# Altium schematic symbol library kmilo17pet-LT_OpAmp_LT1000.SchLib: 2280 symbols (part 74 of 79)
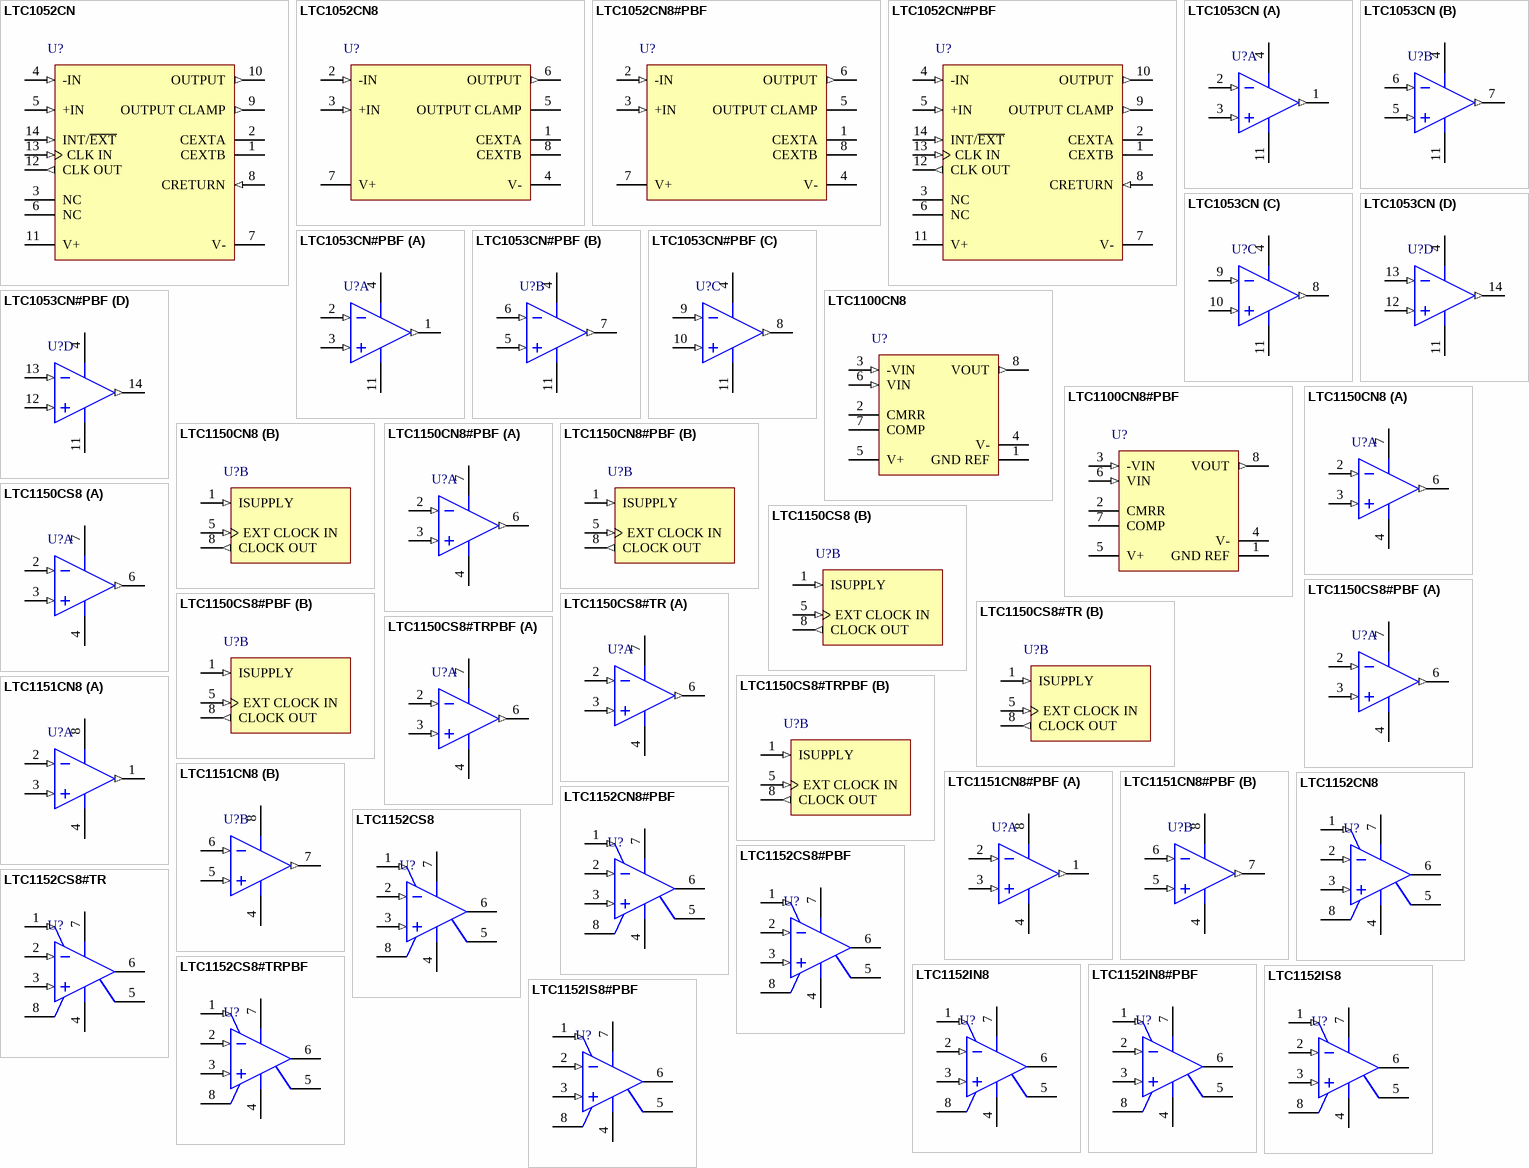
[diagram p178: symbols LTC1052CN to LTC1152IS8#PBF]

## LTC1150CS8#TRPBF
designator U?
Single Channel, Zero-Drift Operational Amplifier with Internal Capacitors, 2.5 MHz Typical GBW, 3 V/us Typical SR, 4.75 to 32 V, 8-Pin SOIC (S8-8), Commercial, Pb-Free, Reel; Linear Technology Part Number: LTC1150; Manufacturer: Linear Technology; PartNumber: LTC1150CS8#TRPBF; Channels (#): 1; GBW (MHz) Typical: 2.5; Is (mA) Typical: 0.8; SR (V/us) Typical: 3; Vos (mV) Typical: 0.0005; Vs Max (V): 32; Vs Min (V): 4.75; DatasheetVersion: Rev. B; PackageVersion: Rev G; PackageReference: LT-S8-8; PackageDescription: 8-Pin Plastic Small Outline, Body 4.9 x 3.9 mm, Pitch 1.27 mm; Supplier 1: Digi-Key; Supplier Part Number 1: LTC1150CS8#TRPBF-ND; Supplier 2: Newark; Supplier Part Number 2: 55M9400; Packing: Reel; RoHS: Pb-Free; Type: ZD; Mounting Technology: Surface Mount; ComponentLink1Description: Manufacturer URL; ComponentLink1URL: http://www.linear.com/; ComponentLink2Description: Datasheet; ComponentLink2URL: http://cds.linear.com/docs/en/datasheet/1150fb.pdf; ComponentLink3Description: Package Specification; ComponentLink3URL: http://cds.linear.com/docs/en/packaging/05081610_G_SO8.pdf
footprint LT-S8-8_N (SOIC, 8-Leads, Body 4.9x3.9mm, Pitch 1.27mm, IPC Medium Density)
footprint LT-S8-8_L (SOIC, 8-Leads, Body 4.9x3.9mm, Pitch 1.27mm, IPC High Density)
footprint LT-S8-8_M (SOIC, 8-Leads, Body 4.9x3.9mm, Pitch 1.27mm, IPC Low Density)
part A pins: 2 -IN (in) "Inverting Input.", 3 +IN (in) "Noninverting Input.", 4 V- (power) "Negative Supply", 6 OUT (out) "Output.", 7 V+ (power) "Positive Supply."
part B pins: 1 ISUPPLY (in) "Supply Current Programming. The supply current can be programmed through Pin 1. When Pin 1 is left open or tied to V+, the supply current defaults to 800uA. Tying a resistor between Pin 1 and Pin 4, the negative supply pin, (See Datasheet)", 5 EXT CLOCK IN (in) "Optional External Clock Input. The LTC1150 has an internal oscillator to control the circuit operation of the amplifier if Pin 5 is left open or biased at any DC voltage in the supply voltage range. When an external clock is (See Datasheet)", 8 CLOCK OUT (out) "Clock Output. The signal coming out of this pin is at the internal oscillator frequency of about 2.2kHz (four times the chopping frequency) and has voltage levels at VH = VS and VL = VS -4.6. If the circuit is driven by an (See Datasheet)"

## LTC1151CN8
designator U?
Dual Channel, Zero-Drift Operational Amplifier, 2 MHz Typical GBW, 2.5 V/us Typical SR, 4.75 to 36 V, 8-Pin DIP (N8-8), Commercial; Linear Technology Part Number: LTC1151; Manufacturer: Linear Technology; PartNumber: LTC1151CN8; Channels (#): 2; Is (mA) Typical: 0.9; SR (V/us) Typical: 2.5; Vos (mV) Typical: 0.0005; Vs Max (V): 36; Vs Min (V): 4.75; DatasheetVersion: Rev. A; PackageVersion: Rev I; PackageReference: LT-N8-8; PackageDescription: 8-Lead PDIP, Body 10.16 x 6.48 mm, Pitch 2.54 mm; Supplier 1: Digi-Key; Supplier Part Number 1: LTC1151CN8-ND; Supplier 2: Newark; Supplier Part Number 2: 55M9401; GBW (MHz) Typical: 2; Type: ZD; Mounting Technology: Surface Mount; ComponentLink1Description: Manufacturer URL; ComponentLink1URL: http://www.linear.com/; ComponentLink2Description: Datasheet; ComponentLink2URL: http://cds.linear.com/docs/en/datasheet/1151fa.pdf; ComponentLink3Description: Package Specification; ComponentLink3URL: http://cds.linear.com/docs/en/packaging/05081510_I_N8.pdf
footprint LT-N8-8 (DIP, 8-Leads, Body 10.16x6.48mm, Pitch 2.54mm)
pins on every part: 4 V- (power), 8 V+ (power)
part A pins: 1 OUT A (out), 2 -IN A (in), 3 +IN A (in)
part B pins: 5 +IN B (in), 6 -IN B (in), 7 OUT B (out)

## LTC1151CN8#PBF
designator U?
Dual Channel, Zero-Drift Operational Amplifier, 2 MHz Typical GBW, 2.5 V/us Typical SR, 4.75 to 36 V, 8-Pin DIP (N8-8), Commercial, Pb-Free; Linear Technology Part Number: LTC1151; Manufacturer: Linear Technology; PartNumber: LTC1151CN8#PBF; Channels (#): 2; Is (mA) Typical: 0.9; SR (V/us) Typical: 2.5; Vos (mV) Typical: 0.0005; Vs Max (V): 36; Vs Min (V): 4.75; DatasheetVersion: Rev. A; PackageVersion: Rev I; PackageReference: LT-N8-8; PackageDescription: 8-Lead PDIP, Body 10.16 x 6.48 mm, Pitch 2.54 mm; Supplier 1: Digi-Key; Supplier Part Number 1: LTC1151CN8#PBF-ND; Supplier 2: Farnell; Supplier Part Number 2: 1663602; Supplier 3: Newark; Supplier Part Number 3: 55M9402; GBW (MHz) Typical: 2; RoHS: Pb-Free; Type: ZD; Mounting Technology: Through Hole; ComponentLink1Description: Manufacturer URL; ComponentLink1URL: http://www.linear.com/; ComponentLink2Description: Datasheet; ComponentLink2URL: http://cds.linear.com/docs/en/datasheet/1151fa.pdf; ComponentLink3Description: Package Specification; ComponentLink3URL: http://cds.linear.com/docs/en/packaging/05081510_I_N8.pdf
footprint LT-N8-8 (DIP, 8-Leads, Body 10.16x6.48mm, Pitch 2.54mm)
pins on every part: 4 V- (power), 8 V+ (power)
part A pins: 1 OUT A (out), 2 -IN A (in), 3 +IN A (in)
part B pins: 5 +IN B (in), 6 -IN B (in), 7 OUT B (out)

## LTC1152CN8
designator U?
Single Channel, C-Load Stable, Zero-Drift Operational Amplifier, RRIO, 0.7 MHz Typical GBW, 0.5 V/us Typical SR, 3 to 14 V, 8-Pin DIP (N8-8), Commercial; Linear Technology Part Number: LTC1152; Manufacturer: Linear Technology; PartNumber: LTC1152CN8; Channels (#): 1; GBW (MHz) Typical: 0.7; Is (mA) Typical: 2.2; SR (V/us) Typical: 0.5; Vos (mV) Typical: 0.001; Vs Max (V): 14; Vs Min (V): 3; PackageVersion: Rev I; PackageReference: LT-N8-8; PackageDescription: 8-Lead PDIP, Body 10.16 x 6.48 mm, Pitch 2.54 mm; Supplier 1: Digi-Key; Supplier Part Number 1: LTC1152CN8-ND; Type: ZD; Mounting Technology: Surface Mount; ComponentLink1Description: Manufacturer URL; ComponentLink1URL: http://www.linear.com/; ComponentLink2Description: Datasheet; ComponentLink2URL: http://cds.linear.com/docs/en/datasheet/lt1152.pdf; ComponentLink3Description: Package Specification; ComponentLink3URL: http://cds.linear.com/docs/en/packaging/05081510_I_N8.pdf
footprint LT-N8-8 (DIP, 8-Leads, Body 10.16x6.48mm, Pitch 2.54mm)
pins: 1 SHDN (in), 2 -IN (in), 3 +IN (in), 4 -VS (power), 5 COMP, 6 OUTPUT (hiz), 7 +VS (power), 8 CP

## LTC1152CN8#PBF
designator U?
Single Channel, C-Load Stable, Zero-Drift Operational Amplifier, RRIO, 0.7 MHz Typical GBW, 0.5 V/us Typical SR, 3 to 14 V, 8-Pin DIP (N8-8), Commercial, Pb-Free; Linear Technology Part Number: LTC1152; Manufacturer: Linear Technology; PartNumber: LTC1152CN8#PBF; Channels (#): 1; GBW (MHz) Typical: 0.7; Is (mA) Typical: 2.2; SR (V/us) Typical: 0.5; Vos (mV) Typical: 0.001; Vs Max (V): 14; Vs Min (V): 3; PackageVersion: Rev I; PackageReference: LT-N8-8; PackageDescription: 8-Lead PDIP, Body 10.16 x 6.48 mm, Pitch 2.54 mm; Supplier 1: Digi-Key; Supplier Part Number 1: LTC1152CN8#PBF-ND; Supplier 2: Farnell; Supplier Part Number 2: 9560882; RoHS: Pb-Free; Type: ZD; Mounting Technology: Through Hole; ComponentLink1Description: Manufacturer URL; ComponentLink1URL: http://www.linear.com/; ComponentLink2Description: Datasheet; ComponentLink2URL: http://cds.linear.com/docs/en/datasheet/lt1152.pdf; ComponentLink3Description: Package Specification; ComponentLink3URL: http://cds.linear.com/docs/en/packaging/05081510_I_N8.pdf
footprint LT-N8-8 (DIP, 8-Leads, Body 10.16x6.48mm, Pitch 2.54mm)
pins: 1 SHDN (in), 2 -IN (in), 3 +IN (in), 4 -VS (power), 5 COMP, 6 OUTPUT (hiz), 7 +VS (power), 8 CP

## LTC1152CS8
designator U?
Single Channel, C-Load Stable, Zero-Drift Operational Amplifier, RRIO, 0.7 MHz Typical GBW, 0.5 V/us Typical SR, 3 to 14 V, 8-Pin SOIC (S8-8), Commercial; Linear Technology Part Number: LTC1152; Manufacturer: Linear Technology; PartNumber: LTC1152CS8; Channels (#): 1; GBW (MHz) Typical: 0.7; Is (mA) Typical: 2.2; SR (V/us) Typical: 0.5; Vos (mV) Typical: 0.001; Vs Max (V): 14; Vs Min (V): 3; PackageVersion: Rev G; PackageReference: LT-S8-8; PackageDescription: 8-Pin Plastic Small Outline, Body 4.9 x 3.9 mm, Pitch 1.27 mm; Supplier 1: Digi-Key; Supplier Part Number 1: LTC1152CS8-ND; Supplier 2: Newark; Supplier Part Number 2: 55M9409; Type: ZD; Mounting Technology: Surface Mount; ComponentLink1Description: Manufacturer URL; ComponentLink1URL: http://www.linear.com/; ComponentLink2Description: Datasheet; ComponentLink2URL: http://cds.linear.com/docs/en/datasheet/lt1152.pdf; ComponentLink3Description: Package Specification; ComponentLink3URL: http://cds.linear.com/docs/en/packaging/05081610_G_SO8.pdf
footprint LT-S8-8_N (SOIC, 8-Leads, Body 4.9x3.9mm, Pitch 1.27mm, IPC Medium Density)
footprint LT-S8-8_L (SOIC, 8-Leads, Body 4.9x3.9mm, Pitch 1.27mm, IPC High Density)
footprint LT-S8-8_M (SOIC, 8-Leads, Body 4.9x3.9mm, Pitch 1.27mm, IPC Low Density)
pins: 1 SHDN (in), 2 -IN (in), 3 +IN (in), 4 -VS (power), 5 COMP, 6 OUTPUT (hiz), 7 +VS (power), 8 CP

## LTC1152CS8#PBF
designator U?
Single Channel, C-Load Stable, Zero-Drift Operational Amplifier, RRIO, 0.7 MHz Typical GBW, 0.5 V/us Typical SR, 3 to 14 V, 8-Pin SOIC (S8-8), Commercial, Pb-Free; Linear Technology Part Number: LTC1152; Manufacturer: Linear Technology; PartNumber: LTC1152CS8#PBF; Channels (#): 1; GBW (MHz) Typical: 0.7; Is (mA) Typical: 2.2; SR (V/us) Typical: 0.5; Vos (mV) Typical: 0.001; Vs Max (V): 14; Vs Min (V): 3; PackageVersion: Rev G; PackageReference: LT-S8-8; PackageDescription: 8-Pin Plastic Small Outline, Body 4.9 x 3.9 mm, Pitch 1.27 mm; Supplier 1: Digi-Key; Supplier Part Number 1: LTC1152CS8#PBF-ND; Supplier 2: Farnell; Supplier Part Number 2: 9560890; Supplier 3: Newark; Supplier Part Number 3: 55M9410; RoHS: Pb-Free; Type: ZD; Mounting Technology: Surface Mount; ComponentLink1Description: Manufacturer URL; ComponentLink1URL: http://www.linear.com/; ComponentLink2Description: Datasheet; ComponentLink2URL: http://cds.linear.com/docs/en/datasheet/lt1152.pdf; ComponentLink3Description: Package Specification; ComponentLink3URL: http://cds.linear.com/docs/en/packaging/05081610_G_SO8.pdf
footprint LT-S8-8_N (SOIC, 8-Leads, Body 4.9x3.9mm, Pitch 1.27mm, IPC Medium Density)
footprint LT-S8-8_L (SOIC, 8-Leads, Body 4.9x3.9mm, Pitch 1.27mm, IPC High Density)
footprint LT-S8-8_M (SOIC, 8-Leads, Body 4.9x3.9mm, Pitch 1.27mm, IPC Low Density)
pins: 1 SHDN (in), 2 -IN (in), 3 +IN (in), 4 -VS (power), 5 COMP, 6 OUTPUT (hiz), 7 +VS (power), 8 CP

## LTC1152CS8#TR
designator U?
Single Channel, C-Load Stable, Zero-Drift Operational Amplifier, RRIO, 0.7 MHz Typical GBW, 0.5 V/us Typical SR, 3 to 14 V, 8-Pin SOIC (S8-8), Commercial, Reel; Linear Technology Part Number: LTC1152; Manufacturer: Linear Technology; PartNumber: LTC1152CS8#TR; Channels (#): 1; GBW (MHz) Typical: 0.7; Is (mA) Typical: 2.2; SR (V/us) Typical: 0.5; Vos (mV) Typical: 0.001; Vs Max (V): 14; Vs Min (V): 3; PackageVersion: Rev G; PackageReference: LT-S8-8; PackageDescription: 8-Pin Plastic Small Outline, Body 4.9 x 3.9 mm, Pitch 1.27 mm; Supplier 1: Digi-Key; Supplier Part Number 1: LTC1152CS8#TR-ND; Packing: Reel; Type: ZD; Mounting Technology: Surface Mount; ComponentLink1Description: Manufacturer URL; ComponentLink1URL: http://www.linear.com/; ComponentLink2Description: Datasheet; ComponentLink2URL: http://cds.linear.com/docs/en/datasheet/lt1152.pdf; ComponentLink3Description: Package Specification; ComponentLink3URL: http://cds.linear.com/docs/en/packaging/05081610_G_SO8.pdf
footprint LT-S8-8_N (SOIC, 8-Leads, Body 4.9x3.9mm, Pitch 1.27mm, IPC Medium Density)
footprint LT-S8-8_L (SOIC, 8-Leads, Body 4.9x3.9mm, Pitch 1.27mm, IPC High Density)
footprint LT-S8-8_M (SOIC, 8-Leads, Body 4.9x3.9mm, Pitch 1.27mm, IPC Low Density)
pins: 1 SHDN (in), 2 -IN (in), 3 +IN (in), 4 -VS (power), 5 COMP, 6 OUTPUT (hiz), 7 +VS (power), 8 CP

## LTC1152CS8#TRPBF
designator U?
Single Channel, C-Load Stable, Zero-Drift Operational Amplifier, RRIO, 0.7 MHz Typical GBW, 0.5 V/us Typical SR, 3 to 14 V, 8-Pin SOIC (S8-8), Commercial, Pb-Free, Reel; Linear Technology Part Number: LTC1152; Manufacturer: Linear Technology; PartNumber: LTC1152CS8#TRPBF; Channels (#): 1; GBW (MHz) Typical: 0.7; Is (mA) Typical: 2.2; SR (V/us) Typical: 0.5; Vos (mV) Typical: 0.001; Vs Max (V): 14; Vs Min (V): 3; PackageVersion: Rev G; PackageReference: LT-S8-8; PackageDescription: 8-Pin Plastic Small Outline, Body 4.9 x 3.9 mm, Pitch 1.27 mm; Supplier 1: Digi-Key; Supplier Part Number 1: LTC1152CS8#TRPBF-ND; Packing: Reel; RoHS: Pb-Free; Type: ZD; Mounting Technology: Surface Mount; ComponentLink1Description: Manufacturer URL; ComponentLink1URL: http://www.linear.com/; ComponentLink2Description: Datasheet; ComponentLink2URL: http://cds.linear.com/docs/en/datasheet/lt1152.pdf; ComponentLink3Description: Package Specification; ComponentLink3URL: http://cds.linear.com/docs/en/packaging/05081610_G_SO8.pdf
footprint LT-S8-8_N (SOIC, 8-Leads, Body 4.9x3.9mm, Pitch 1.27mm, IPC Medium Density)
footprint LT-S8-8_L (SOIC, 8-Leads, Body 4.9x3.9mm, Pitch 1.27mm, IPC High Density)
footprint LT-S8-8_M (SOIC, 8-Leads, Body 4.9x3.9mm, Pitch 1.27mm, IPC Low Density)
pins: 1 SHDN (in), 2 -IN (in), 3 +IN (in), 4 -VS (power), 5 COMP, 6 OUTPUT (hiz), 7 +VS (power), 8 CP

## LTC1152IN8
designator U?
Single Channel, C-Load Stable, Zero-Drift Operational Amplifier, RRIO, 0.7 MHz Typical GBW, 0.5 V/us Typical SR, 3 to 14 V, 8-Pin DIP (N8-8), Industrial; Linear Technology Part Number: LTC1152; Manufacturer: Linear Technology; PartNumber: LTC1152IN8; Channels (#): 1; GBW (MHz) Typical: 0.7; Is (mA) Typical: 2.2; SR (V/us) Typical: 0.5; Vos (mV) Typical: 0.001; Vs Max (V): 14; Vs Min (V): 3; PackageVersion: Rev I; PackageReference: LT-N8-8; PackageDescription: 8-Lead PDIP, Body 10.16 x 6.48 mm, Pitch 2.54 mm; Supplier 1: Digi-Key; Supplier Part Number 1: LTC1152IN8-ND; Type: ZD; Mounting Technology: Surface Mount; ComponentLink1Description: Manufacturer URL; ComponentLink1URL: http://www.linear.com/; ComponentLink2Description: Datasheet; ComponentLink2URL: http://cds.linear.com/docs/en/datasheet/lt1152.pdf; ComponentLink3Description: Package Specification; ComponentLink3URL: http://cds.linear.com/docs/en/packaging/05081510_I_N8.pdf
footprint LT-N8-8 (DIP, 8-Leads, Body 10.16x6.48mm, Pitch 2.54mm)
pins: 1 SHDN (in), 2 -IN (in), 3 +IN (in), 4 -VS (power), 5 COMP, 6 OUTPUT (hiz), 7 +VS (power), 8 CP

## LTC1152IN8#PBF
designator U?
Single Channel, C-Load Stable, Zero-Drift Operational Amplifier, RRIO, 0.7 MHz Typical GBW, 0.5 V/us Typical SR, 3 to 14 V, 8-Pin DIP (N8-8), Industrial, Pb-Free; Linear Technology Part Number: LTC1152; Manufacturer: Linear Technology; PartNumber: LTC1152IN8#PBF; Channels (#): 1; GBW (MHz) Typical: 0.7; Is (mA) Typical: 2.2; SR (V/us) Typical: 0.5; Vos (mV) Typical: 0.001; Vs Max (V): 14; Vs Min (V): 3; PackageVersion: Rev I; PackageReference: LT-N8-8; PackageDescription: 8-Lead PDIP, Body 10.16 x 6.48 mm, Pitch 2.54 mm; Supplier 1: Digi-Key; Supplier Part Number 1: LTC1152IN8#PBF-ND; Supplier 2: Newark; Supplier Part Number 2: 55M9414; RoHS: Pb-Free; Type: ZD; Mounting Technology: Through Hole; ComponentLink1Description: Manufacturer URL; ComponentLink1URL: http://www.linear.com/; ComponentLink2Description: Datasheet; ComponentLink2URL: http://cds.linear.com/docs/en/datasheet/lt1152.pdf; ComponentLink3Description: Package Specification; ComponentLink3URL: http://cds.linear.com/docs/en/packaging/05081510_I_N8.pdf
footprint LT-N8-8 (DIP, 8-Leads, Body 10.16x6.48mm, Pitch 2.54mm)
pins: 1 SHDN (in), 2 -IN (in), 3 +IN (in), 4 -VS (power), 5 COMP, 6 OUTPUT (hiz), 7 +VS (power), 8 CP

## LTC1152IS8
designator U?
Single Channel, C-Load Stable, Zero-Drift Operational Amplifier, RRIO, 0.7 MHz Typical GBW, 0.5 V/us Typical SR, 3 to 14 V, 8-Pin SOIC (S8-8), Industrial; Linear Technology Part Number: LTC1152; Manufacturer: Linear Technology; PartNumber: LTC1152IS8; Channels (#): 1; GBW (MHz) Typical: 0.7; Is (mA) Typical: 2.2; SR (V/us) Typical: 0.5; Vos (mV) Typical: 0.001; Vs Max (V): 14; Vs Min (V): 3; PackageVersion: Rev G; PackageReference: LT-S8-8; PackageDescription: 8-Pin Plastic Small Outline, Body 4.9 x 3.9 mm, Pitch 1.27 mm; Supplier 1: Digi-Key; Supplier Part Number 1: LTC1152IS8-ND; Type: ZD; Mounting Technology: Surface Mount; ComponentLink1Description: Manufacturer URL; ComponentLink1URL: http://www.linear.com/; ComponentLink2Description: Datasheet; ComponentLink2URL: http://cds.linear.com/docs/en/datasheet/lt1152.pdf; ComponentLink3Description: Package Specification; ComponentLink3URL: http://cds.linear.com/docs/en/packaging/05081610_G_SO8.pdf
footprint LT-S8-8_N (SOIC, 8-Leads, Body 4.9x3.9mm, Pitch 1.27mm, IPC Medium Density)
footprint LT-S8-8_L (SOIC, 8-Leads, Body 4.9x3.9mm, Pitch 1.27mm, IPC High Density)
footprint LT-S8-8_M (SOIC, 8-Leads, Body 4.9x3.9mm, Pitch 1.27mm, IPC Low Density)
pins: 1 SHDN (in), 2 -IN (in), 3 +IN (in), 4 -VS (power), 5 COMP, 6 OUTPUT (hiz), 7 +VS (power), 8 CP

## LTC1152IS8#PBF
designator U?
Single Channel, C-Load Stable, Zero-Drift Operational Amplifier, RRIO, 0.7 MHz Typical GBW, 0.5 V/us Typical SR, 3 to 14 V, 8-Pin SOIC (S8-8), Industrial, Pb-Free; Linear Technology Part Number: LTC1152; Manufacturer: Linear Technology; PartNumber: LTC1152IS8#PBF; Channels (#): 1; GBW (MHz) Typical: 0.7; Is (mA) Typical: 2.2; SR (V/us) Typical: 0.5; Vos (mV) Typical: 0.001; Vs Max (V): 14; Vs Min (V): 3; PackageVersion: Rev G; PackageReference: LT-S8-8; PackageDescription: 8-Pin Plastic Small Outline, Body 4.9 x 3.9 mm, Pitch 1.27 mm; Supplier 1: Digi-Key; Supplier Part Number 1: LTC1152IS8#PBF-ND; Supplier 2: Farnell; Supplier Part Number 2: 1663603; Supplier 3: Newark; Supplier Part Number 3: 55M9416; RoHS: Pb-Free; Type: ZD; Mounting Technology: Surface Mount; ComponentLink1Description: Manufacturer URL; ComponentLink1URL: http://www.linear.com/; ComponentLink2Description: Datasheet; ComponentLink2URL: http://cds.linear.com/docs/en/datasheet/lt1152.pdf; ComponentLink3Description: Package Specification; ComponentLink3URL: http://cds.linear.com/docs/en/packaging/05081610_G_SO8.pdf
footprint LT-S8-8_N (SOIC, 8-Leads, Body 4.9x3.9mm, Pitch 1.27mm, IPC Medium Density)
footprint LT-S8-8_L (SOIC, 8-Leads, Body 4.9x3.9mm, Pitch 1.27mm, IPC High Density)
footprint LT-S8-8_M (SOIC, 8-Leads, Body 4.9x3.9mm, Pitch 1.27mm, IPC Low Density)
pins: 1 SHDN (in), 2 -IN (in), 3 +IN (in), 4 -VS (power), 5 COMP, 6 OUTPUT (hiz), 7 +VS (power), 8 CP

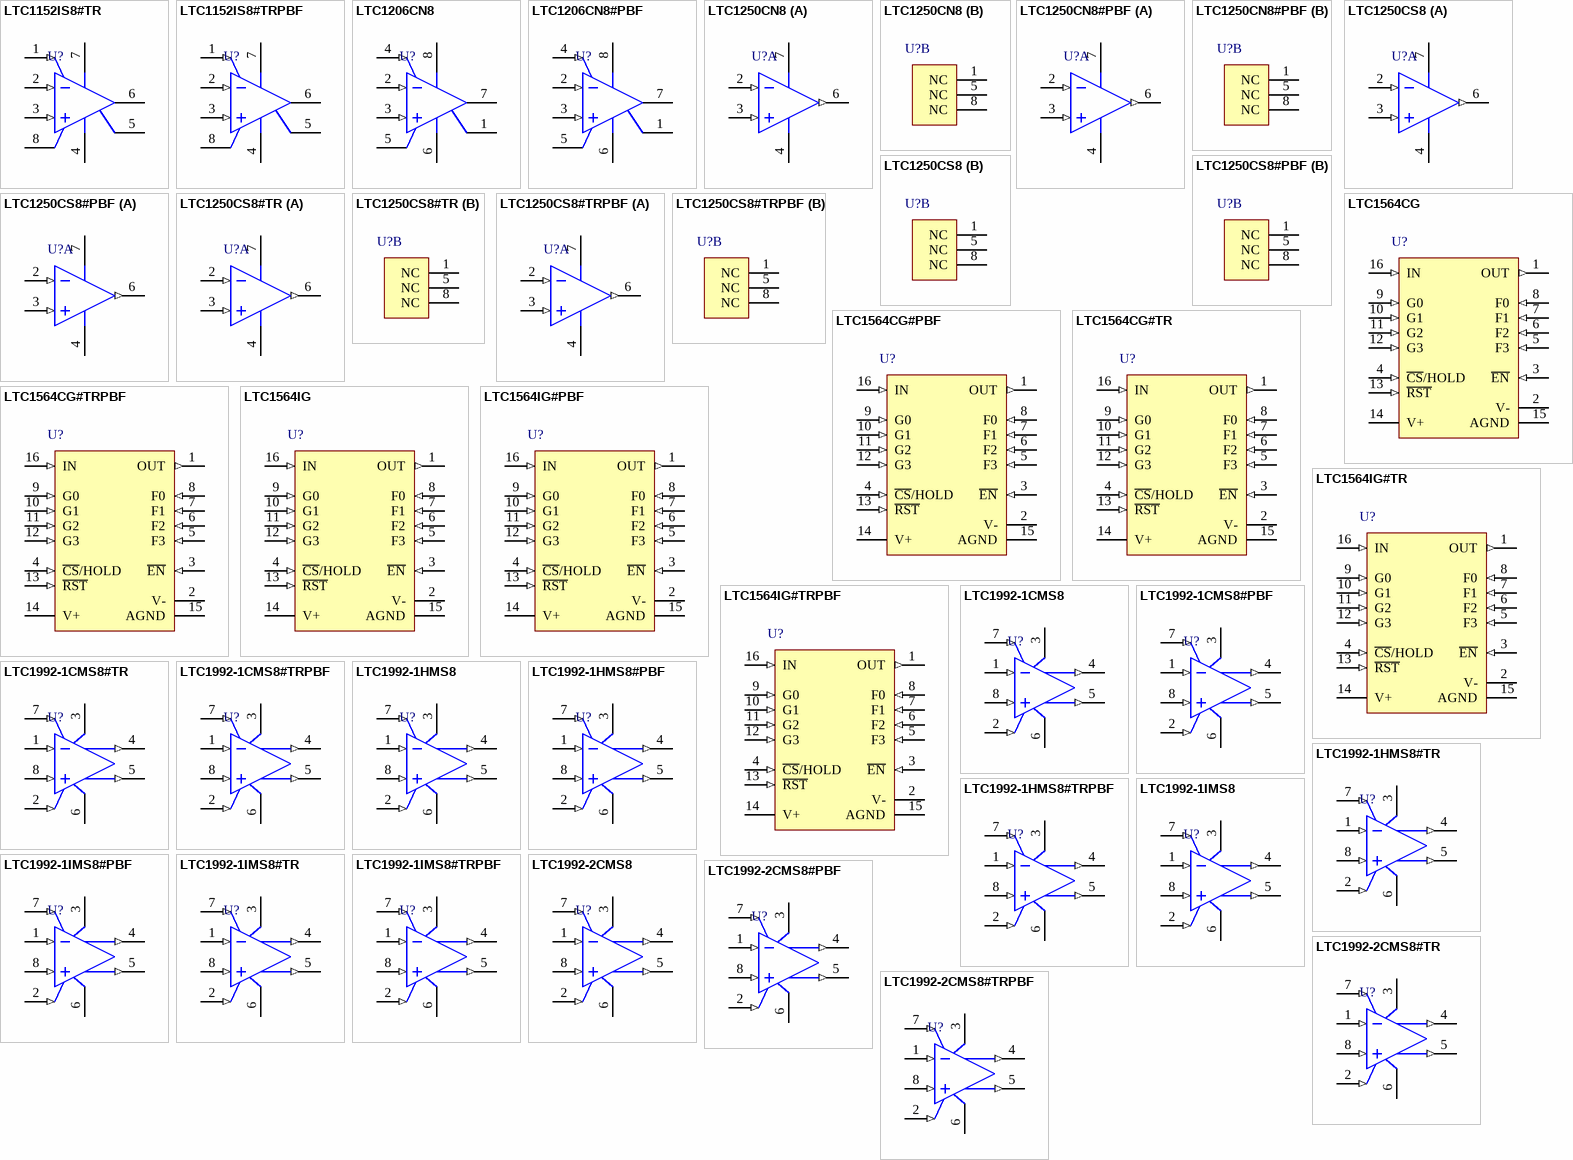
[diagram p103: symbols LTC1152IS8#TR to LTC1992-2CMS8#TRPBF]

## LTC1152IS8#TR
designator U?
Single Channel, C-Load Stable, Zero-Drift Operational Amplifier, RRIO, 0.7 MHz Typical GBW, 0.5 V/us Typical SR, 3 to 14 V, 8-Pin SOIC (S8-8), Industrial, Reel; Linear Technology Part Number: LTC1152; Manufacturer: Linear Technology; PartNumber: LTC1152IS8#TR; Channels (#): 1; GBW (MHz) Typical: 0.7; Is (mA) Typical: 2.2; SR (V/us) Typical: 0.5; Vos (mV) Typical: 0.001; Vs Max (V): 14; Vs Min (V): 3; PackageVersion: Rev G; PackageReference: LT-S8-8; PackageDescription: 8-Pin Plastic Small Outline, Body 4.9 x 3.9 mm, Pitch 1.27 mm; Supplier 1: Digi-Key; Supplier Part Number 1: LTC1152IS8#TR-ND; Packing: Reel; Type: ZD; Mounting Technology: Surface Mount; ComponentLink1Description: Manufacturer URL; ComponentLink1URL: http://www.linear.com/; ComponentLink2Description: Datasheet; ComponentLink2URL: http://cds.linear.com/docs/en/datasheet/lt1152.pdf; ComponentLink3Description: Package Specification; ComponentLink3URL: http://cds.linear.com/docs/en/packaging/05081610_G_SO8.pdf
footprint LT-S8-8_N (SOIC, 8-Leads, Body 4.9x3.9mm, Pitch 1.27mm, IPC Medium Density)
footprint LT-S8-8_L (SOIC, 8-Leads, Body 4.9x3.9mm, Pitch 1.27mm, IPC High Density)
footprint LT-S8-8_M (SOIC, 8-Leads, Body 4.9x3.9mm, Pitch 1.27mm, IPC Low Density)
pins: 1 SHDN (in), 2 -IN (in), 3 +IN (in), 4 -VS (power), 5 COMP, 6 OUTPUT (hiz), 7 +VS (power), 8 CP

## LTC1152IS8#TRPBF
designator U?
Single Channel, C-Load Stable, Zero-Drift Operational Amplifier, RRIO, 0.7 MHz Typical GBW, 0.5 V/us Typical SR, 3 to 14 V, 8-Pin SOIC (S8-8), Industrial, Pb-Free, Reel; Linear Technology Part Number: LTC1152; Manufacturer: Linear Technology; PartNumber: LTC1152IS8#TRPBF; Channels (#): 1; GBW (MHz) Typical: 0.7; Is (mA) Typical: 2.2; SR (V/us) Typical: 0.5; Vos (mV) Typical: 0.001; Vs Max (V): 14; Vs Min (V): 3; PackageVersion: Rev G; PackageReference: LT-S8-8; PackageDescription: 8-Pin Plastic Small Outline, Body 4.9 x 3.9 mm, Pitch 1.27 mm; Supplier 1: Digi-Key; Supplier Part Number 1: LTC1152IS8#TRPBF-ND; Packing: Reel; RoHS: Pb-Free; Type: ZD; Mounting Technology: Surface Mount; ComponentLink1Description: Manufacturer URL; ComponentLink1URL: http://www.linear.com/; ComponentLink2Description: Datasheet; ComponentLink2URL: http://cds.linear.com/docs/en/datasheet/lt1152.pdf; ComponentLink3Description: Package Specification; ComponentLink3URL: http://cds.linear.com/docs/en/packaging/05081610_G_SO8.pdf
footprint LT-S8-8_N (SOIC, 8-Leads, Body 4.9x3.9mm, Pitch 1.27mm, IPC Medium Density)
footprint LT-S8-8_L (SOIC, 8-Leads, Body 4.9x3.9mm, Pitch 1.27mm, IPC High Density)
footprint LT-S8-8_M (SOIC, 8-Leads, Body 4.9x3.9mm, Pitch 1.27mm, IPC Low Density)
pins: 1 SHDN (in), 2 -IN (in), 3 +IN (in), 4 -VS (power), 5 COMP, 6 OUTPUT (hiz), 7 +VS (power), 8 CP

## LTC1206CN8
designator U?
Single Channel, Adjustable Supply Current Operational Amplifier, 66 MHz Typical GBW, 900 V/us Typical SR, 10 to 36 V, 8-Pin DIP (N8-8), Commercial; Linear Technology Part Number: LT1206; Manufacturer: Linear Technology; PartNumber: LTC1206CN8; Channels (#): 1; GBW (MHz) Typical: 66; Is (mA) Typical: 20; SR (V/us) Typical: 900; Vos (mV) Typical: 3; Vs Max (V): 36; Vs Min (V): 10; DatasheetVersion: Rev. B; PackageVersion: Rev I; PackageReference: LT-N8-8; PackageDescription: 8-Lead PDIP, Body 10.16 x 6.48 mm, Pitch 2.54 mm; Type: CFA; Mounting Technology: Surface Mount; ComponentLink1Description: Manufacturer URL; ComponentLink1URL: http://www.linear.com/; ComponentLink2Description: Datasheet; ComponentLink2URL: http://cds.linear.com/docs/en/datasheet/1206fb.pdf; ComponentLink3Description: Package Specification; ComponentLink3URL: http://cds.linear.com/docs/en/packaging/05081510_I_N8.pdf
footprint LT-N8-8 (DIP, 8-Leads, Body 10.16x6.48mm, Pitch 2.54mm)
pins: 1 NC, 2 -IN (in), 3 +IN (in), 4 S/D (in), 5 COMP, 6 V- (power), 7 OUT (hiz), 8 V+ (power)

## LTC1206CN8#PBF
designator U?
Single Channel, Adjustable Supply Current Operational Amplifier, 66 MHz Typical GBW, 900 V/us Typical SR, 10 to 36 V, 8-Pin DIP (N8-8), Commercial, Pb-Free; Linear Technology Part Number: LT1206; Manufacturer: Linear Technology; PartNumber: LTC1206CN8#PBF; Channels (#): 1; GBW (MHz) Typical: 66; Is (mA) Typical: 20; SR (V/us) Typical: 900; Vos (mV) Typical: 3; Vs Max (V): 36; Vs Min (V): 10; DatasheetVersion: Rev. B; PackageVersion: Rev I; PackageReference: LT-N8-8; PackageDescription: 8-Lead PDIP, Body 10.16 x 6.48 mm, Pitch 2.54 mm; RoHS: Pb-Free; Type: CFA; Mounting Technology: Through Hole; ComponentLink1Description: Manufacturer URL; ComponentLink1URL: http://www.linear.com/; ComponentLink2Description: Datasheet; ComponentLink2URL: http://cds.linear.com/docs/en/datasheet/1206fb.pdf; ComponentLink3Description: Package Specification; ComponentLink3URL: http://cds.linear.com/docs/en/packaging/05081510_I_N8.pdf
footprint LT-N8-8 (DIP, 8-Leads, Body 10.16x6.48mm, Pitch 2.54mm)
pins: 1 NC, 2 -IN (in), 3 +IN (in), 4 S/D (in), 5 COMP, 6 V- (power), 7 OUT (hiz), 8 V+ (power)

## LTC1250CN8
designator U?
Single Channel, Very Low Noise, Zero-Drift Bridge Operational Amplifier, 1.5 MHz Typical GBW, 10 V/us Typical SR, 4.75 to 18 V, 8-Pin DIP (N8-8), Commercial; Linear Technology Part Number: LTC1250; Manufacturer: Linear Technology; PartNumber: LTC1250CN8; Channels (#): 1; GBW (MHz) Typical: 1.5; Is (mA) Typical: 3; SR (V/us) Typical: 10; Vos (mV) Typical: 0.005; Vs Max (V): 18; Vs Min (V): 4.75; DatasheetVersion: Rev. B; PackageVersion: Rev I; PackageReference: LT-N8-8; PackageDescription: 8-Lead PDIP, Body 10.16 x 6.48 mm, Pitch 2.54 mm; Supplier 1: Digi-Key; Supplier Part Number 1: LTC1250CN8-ND; Type: ZD; Mounting Technology: Surface Mount; ComponentLink1Description: Manufacturer URL; ComponentLink1URL: http://www.linear.com/; ComponentLink2Description: Datasheet; ComponentLink2URL: http://cds.linear.com/docs/en/datasheet/1250fb.pdf; ComponentLink3Description: Package Specification; ComponentLink3URL: http://cds.linear.com/docs/en/packaging/05081510_I_N8.pdf
footprint LT-N8-8 (DIP, 8-Leads, Body 10.16x6.48mm, Pitch 2.54mm)
part A pins: 2 -IN (in), 3 +IN (in), 4 V- (power), 6 OUT (out), 7 V+ (power)
part B pins: 1 NC, 5 NC, 8 NC

## LTC1250CN8#PBF
designator U?
Single Channel, Very Low Noise, Zero-Drift Bridge Operational Amplifier, 1.5 MHz Typical GBW, 10 V/us Typical SR, 4.75 to 18 V, 8-Pin DIP (N8-8), Commercial, Pb-Free; Linear Technology Part Number: LTC1250; Manufacturer: Linear Technology; PartNumber: LTC1250CN8#PBF; Channels (#): 1; GBW (MHz) Typical: 1.5; Is (mA) Typical: 3; SR (V/us) Typical: 10; Vos (mV) Typical: 0.005; Vs Max (V): 18; Vs Min (V): 4.75; DatasheetVersion: Rev. B; PackageVersion: Rev I; PackageReference: LT-N8-8; PackageDescription: 8-Lead PDIP, Body 10.16 x 6.48 mm, Pitch 2.54 mm; Supplier 1: Digi-Key; Supplier Part Number 1: LTC1250CN8#PBF-ND; Supplier 2: Farnell; Supplier Part Number 2: 9560947; Supplier 3: Newark; Supplier Part Number 3: 55M9699; RoHS: Pb-Free; Type: ZD; Mounting Technology: Through Hole; ComponentLink1Description: Manufacturer URL; ComponentLink1URL: http://www.linear.com/; ComponentLink2Description: Datasheet; ComponentLink2URL: http://cds.linear.com/docs/en/datasheet/1250fb.pdf; ComponentLink3Description: Package Specification; ComponentLink3URL: http://cds.linear.com/docs/en/packaging/05081510_I_N8.pdf
footprint LT-N8-8 (DIP, 8-Leads, Body 10.16x6.48mm, Pitch 2.54mm)
part A pins: 2 -IN (in), 3 +IN (in), 4 V- (power), 6 OUT (out), 7 V+ (power)
part B pins: 1 NC, 5 NC, 8 NC

## LTC1250CS8
designator U?
Single Channel, Very Low Noise, Zero-Drift Bridge Operational Amplifier, 1.5 MHz Typical GBW, 10 V/us Typical SR, 4.75 to 18 V, 8-Pin SOIC (S8-8), Commercial; Linear Technology Part Number: LTC1250; Manufacturer: Linear Technology; PartNumber: LTC1250CS8; Channels (#): 1; GBW (MHz) Typical: 1.5; Is (mA) Typical: 3; SR (V/us) Typical: 10; Vos (mV) Typical: 0.005; Vs Max (V): 18; Vs Min (V): 4.75; DatasheetVersion: Rev. B; PackageVersion: Rev G; PackageReference: LT-S8-8; PackageDescription: 8-Pin Plastic Small Outline, Body 4.9 x 3.9 mm, Pitch 1.27 mm; Supplier 1: Digi-Key; Supplier Part Number 1: LTC1250CS8-ND; Type: ZD; Mounting Technology: Surface Mount; ComponentLink1Description: Manufacturer URL; ComponentLink1URL: http://www.linear.com/; ComponentLink2Description: Datasheet; ComponentLink2URL: http://cds.linear.com/docs/en/datasheet/1250fb.pdf; ComponentLink3Description: Package Specification; ComponentLink3URL: http://cds.linear.com/docs/en/packaging/05081610_G_SO8.pdf
footprint LT-S8-8_N (SOIC, 8-Leads, Body 4.9x3.9mm, Pitch 1.27mm, IPC Medium Density)
footprint LT-S8-8_L (SOIC, 8-Leads, Body 4.9x3.9mm, Pitch 1.27mm, IPC High Density)
footprint LT-S8-8_M (SOIC, 8-Leads, Body 4.9x3.9mm, Pitch 1.27mm, IPC Low Density)
part A pins: 2 -IN (in), 3 +IN (in), 4 V- (power), 6 OUT (out), 7 V+ (power)
part B pins: 1 NC, 5 NC, 8 NC

## LTC1250CS8#PBF
designator U?
Single Channel, Very Low Noise, Zero-Drift Bridge Operational Amplifier, 1.5 MHz Typical GBW, 10 V/us Typical SR, 4.75 to 18 V, 8-Pin SOIC (S8-8), Commercial, Pb-Free; Linear Technology Part Number: LTC1250; Manufacturer: Linear Technology; PartNumber: LTC1250CS8#PBF; Channels (#): 1; GBW (MHz) Typical: 1.5; Is (mA) Typical: 3; SR (V/us) Typical: 10; Vos (mV) Typical: 0.005; Vs Max (V): 18; Vs Min (V): 4.75; DatasheetVersion: Rev. B; PackageVersion: Rev G; PackageReference: LT-S8-8; PackageDescription: 8-Pin Plastic Small Outline, Body 4.9 x 3.9 mm, Pitch 1.27 mm; Supplier 1: Digi-Key; Supplier Part Number 1: LTC1250CS8#PBF-ND; Supplier 2: Farnell; Supplier Part Number 2: 9560955; RoHS: Pb-Free; Type: ZD; Mounting Technology: Surface Mount; ComponentLink1Description: Manufacturer URL; ComponentLink1URL: http://www.linear.com/; ComponentLink2Description: Datasheet; ComponentLink2URL: http://cds.linear.com/docs/en/datasheet/1250fb.pdf; ComponentLink3Description: Package Specification; ComponentLink3URL: http://cds.linear.com/docs/en/packaging/05081610_G_SO8.pdf
footprint LT-S8-8_N (SOIC, 8-Leads, Body 4.9x3.9mm, Pitch 1.27mm, IPC Medium Density)
footprint LT-S8-8_L (SOIC, 8-Leads, Body 4.9x3.9mm, Pitch 1.27mm, IPC High Density)
footprint LT-S8-8_M (SOIC, 8-Leads, Body 4.9x3.9mm, Pitch 1.27mm, IPC Low Density)
part A pins: 2 -IN (in), 3 +IN (in), 4 V- (power), 6 OUT (out), 7 V+ (power)
part B pins: 1 NC, 5 NC, 8 NC

## LTC1250CS8#TR
designator U?
Single Channel, Very Low Noise, Zero-Drift Bridge Operational Amplifier, 1.5 MHz Typical GBW, 10 V/us Typical SR, 4.75 to 18 V, 8-Pin SOIC (S8-8), Commercial, Reel; Linear Technology Part Number: LTC1250; Manufacturer: Linear Technology; PartNumber: LTC1250CS8#TR; Channels (#): 1; GBW (MHz) Typical: 1.5; Is (mA) Typical: 3; SR (V/us) Typical: 10; Vos (mV) Typical: 0.005; Vs Max (V): 18; Vs Min (V): 4.75; DatasheetVersion: Rev. B; PackageVersion: Rev G; PackageReference: LT-S8-8; PackageDescription: 8-Pin Plastic Small Outline, Body 4.9 x 3.9 mm, Pitch 1.27 mm; Supplier 1: Digi-Key; Supplier Part Number 1: LTC1250CS8#TR-ND; Packing: Reel; Type: ZD; Mounting Technology: Surface Mount; ComponentLink1Description: Manufacturer URL; ComponentLink1URL: http://www.linear.com/; ComponentLink2Description: Datasheet; ComponentLink2URL: http://cds.linear.com/docs/en/datasheet/1250fb.pdf; ComponentLink3Description: Package Specification; ComponentLink3URL: http://cds.linear.com/docs/en/packaging/05081610_G_SO8.pdf
footprint LT-S8-8_N (SOIC, 8-Leads, Body 4.9x3.9mm, Pitch 1.27mm, IPC Medium Density)
footprint LT-S8-8_L (SOIC, 8-Leads, Body 4.9x3.9mm, Pitch 1.27mm, IPC High Density)
footprint LT-S8-8_M (SOIC, 8-Leads, Body 4.9x3.9mm, Pitch 1.27mm, IPC Low Density)
part A pins: 2 -IN (in), 3 +IN (in), 4 V- (power), 6 OUT (out), 7 V+ (power)
part B pins: 1 NC, 5 NC, 8 NC

## LTC1250CS8#TRPBF
designator U?
Single Channel, Very Low Noise, Zero-Drift Bridge Operational Amplifier, 1.5 MHz Typical GBW, 10 V/us Typical SR, 4.75 to 18 V, 8-Pin SOIC (S8-8), Commercial, Pb-Free, Reel; Linear Technology Part Number: LTC1250; Manufacturer: Linear Technology; PartNumber: LTC1250CS8#TRPBF; Channels (#): 1; GBW (MHz) Typical: 1.5; Is (mA) Typical: 3; SR (V/us) Typical: 10; Vos (mV) Typical: 0.005; Vs Max (V): 18; Vs Min (V): 4.75; DatasheetVersion: Rev. B; PackageVersion: Rev G; PackageReference: LT-S8-8; PackageDescription: 8-Pin Plastic Small Outline, Body 4.9 x 3.9 mm, Pitch 1.27 mm; Supplier 1: Digi-Key; Supplier Part Number 1: LTC1250CS8#TRPBF-ND; Packing: Reel; RoHS: Pb-Free; Type: ZD; Mounting Technology: Surface Mount; ComponentLink1Description: Manufacturer URL; ComponentLink1URL: http://www.linear.com/; ComponentLink2Description: Datasheet; ComponentLink2URL: http://cds.linear.com/docs/en/datasheet/1250fb.pdf; ComponentLink3Description: Package Specification; ComponentLink3URL: http://cds.linear.com/docs/en/packaging/05081610_G_SO8.pdf
footprint LT-S8-8_N (SOIC, 8-Leads, Body 4.9x3.9mm, Pitch 1.27mm, IPC Medium Density)
footprint LT-S8-8_L (SOIC, 8-Leads, Body 4.9x3.9mm, Pitch 1.27mm, IPC High Density)
footprint LT-S8-8_M (SOIC, 8-Leads, Body 4.9x3.9mm, Pitch 1.27mm, IPC Low Density)
part A pins: 2 -IN (in), 3 +IN (in), 4 V- (power), 6 OUT (out), 7 V+ (power)
part B pins: 1 NC, 5 NC, 8 NC

## LTC1564CG
designator U?
Single Channel, Digitally Controlled Antialiasing Filter and 4-Bit PGA, 0.15 MHz Typical GBW, 2.7 to 10.5 V, 16-Pin SOP (G16), Commercial; Linear Technology Part Number: LTC1564; Manufacturer: Linear Technology; PartNumber: LTC1564CG; Channels (#): 1; GBW (MHz) Typical: 0.15; Is (mA) Typical: 15; Vos (mV) Typical: 3; Vs Max (V): 10.5; Vs Min (V): 2.7; DatasheetVersion: Rev. A; PackageReference: LT-G-16; PackageDescription: 16-Lead Plastic SSOP, Body 6.2 x 5.3 mm, Pitch 0.65 mm; Supplier 1: Digi-Key; Supplier Part Number 1: LTC1564CG-ND; Type: PGA; Mounting Technology: Surface Mount; ComponentLink1Description: Manufacturer URL; ComponentLink1URL: http://www.linear.com/; ComponentLink2Description: Datasheet; ComponentLink2URL: http://cds.linear.com/docs/en/datasheet/1564fa.pdf; ComponentLink3Description: Package Specification; ComponentLink3URL: http://cds.linear.com/docs/en/packaging/SSOP_16_05-08-1640.pdf
footprint LT-G-16_N (SOP, 16-Leads, Body 6.2x5.3mm, Pitch 0.65mm, IPC Medium Density)
footprint LT-G-16_L (SOP, 16-Leads, Body 6.2x5.3mm, Pitch 0.65mm, IPC High Density)
footprint LT-G-16_M (SOP, 16-Leads, Body 6.2x5.3mm, Pitch 0.65mm, IPC Low Density)
pins: 1 OUT (out) "Analog Output. In normal filtering, this is the output of an internal operational amplifier and is capable of swinging essentially to any voltage between the power supply rails (that is, between V+ and V-). This output is (See Datasheet)", 2 V- (power) "Power Supply Pins. The V+ and V- pins should be bypassed with 0.1uF capacitors to an adequate analog ground plane using the shortest possible wiring. Electrically clean supplies and a low impedance ground are important for (See Datasheet)", 3 ~{EN} (in) "CMOS-Level Digital Chip Enable Input. Logic 1 or open circuiting this pin causes a shutdown mode with reduced supply current. The active circuitry in the LTC1564 shuts off and its output assumes a high impedance state. If F (See Datasheet)", 4 ~{CS}/HOLD (in) "CMOS-Level Digital Enable Input for the Latch Holding F and G Bits. Logic 0 makes the latch transparent so that the F and G inputs directly control the filter’s cutoff frequency and gain. Logic 1 holds the last values of (See Datasheet)", 5 F3 (in) "CMOS-Level Digital Frequency Control ("F Code") Inputs. F3 is the most significant bit (MSB). These pins program the LTC1564’s cutoff frequency fC through the internal latch, whichpasses the bits directly when the CS/HOLD (See Datasheet)", 6 F2 (in) "CMOS-Level Digital Frequency Control ("F Code") Inputs. F3 is the most significant bit (MSB). These pins program the LTC1564’s cutoff frequency fC through the internal latch, whichpasses the bits directly when the CS/HOLD (See Datasheet)", 7 F1 (in) "CMOS-Level Digital Frequency Control ("F Code") Inputs. F3 is the most significant bit (MSB). These pins program the LTC1564’s cutoff frequency fC through the internal latch, whichpasses the bits directly when the CS/HOLD (See Datasheet)", 8 F0 (in) "CMOS-Level Digital Frequency Control ("F Code") Inputs. F3 is the most significant bit (MSB). These pins program the LTC1564’s cutoff frequency fC through the internal latch, whichpasses the bits directly when the CS/HOLD (See Datasheet)", 9 G0 (in) "CMOS-Level Digital Gain Control ("G Code") Inputs. G3 is the most significant bit (MSB). These pins program the LTC1564’s passband gain through the internal latch, which passes the bits directly when the CS/HOLD input is at (See Datasheet)", 10 G1 (in) "CMOS-Level Digital Gain Control ("G Code") Inputs. G3 is the most significant bit (MSB). These pins program the LTC1564’s passband gain through the internal latch, which passes the bits directly when the CS/HOLD input is at (See Datasheet)", 11 G2 (in) "CMOS-Level Digital Gain Control ("G Code") Inputs. G3 is the most significant bit (MSB). These pins program the LTC1564’s passband gain through the internal latch, which passes the bits directly when the CS/HOLD input is at (See Datasheet)", 12 G3 (in) "CMOS-Level Digital Gain Control ("G Code") Inputs. G3 is the most significant bit (MSB). These pins program the LTC1564’s passband gain through the internal latch, which passes the bits directly when the CS/HOLD input is at (See Datasheet)", 13 ~{RST} (in) "CMOS-Level Asynchronous Reset Input. Logic 0 on this pin immediately resets the internal F and G latch to all zeros, regardless of the state of the CS/HOLD pin or the F or G input pins. This causes the LTC1564 to enter a (See Datasheet)", 14 V+ (power) "Power Supply Pins. The V+ and V- pins should be bypassed with 0.1uF capacitors to an adequate analog ground plane using the shortest possible wiring. Electrically clean supplies and a low impedance ground are important for (See Datasheet)", 15 AGND (power) "Analog Ground. The AGND pin is at the midpoint of an internal resistive voltage divider, developing a potential halfway between the V+ and V- pins, with an equivalent series resistance to the pin of nominally 7k. (In the (See Datasheet)", 16 IN (in) "Analog Input. The filter in the LTC1564 senses the voltage difference between the IN and AGND pins. In normal filtering (EN = 0, RST = 1, F code other than 0000), the IN pin connects within the LTC1564 to a digitally (See Datasheet)"

## LTC1564CG#PBF
designator U?
Single Channel, Digitally Controlled Antialiasing Filter and 4-Bit PGA, 0.15 MHz Typical GBW, 2.7 to 10.5 V, 16-Pin SOP (G16), Commercial, Pb-Free; Linear Technology Part Number: LTC1564; Manufacturer: Linear Technology; PartNumber: LTC1564CG#PBF; Channels (#): 1; GBW (MHz) Typical: 0.15; Is (mA) Typical: 15; Vos (mV) Typical: 3; Vs Max (V): 10.5; Vs Min (V): 2.7; DatasheetVersion: Rev. A; PackageReference: LT-G-16; PackageDescription: 16-Lead Plastic SSOP, Body 6.2 x 5.3 mm, Pitch 0.65 mm; Supplier 1: Digi-Key; Supplier Part Number 1: LTC1564CG#PBF-ND; Supplier 2: Farnell; Supplier Part Number 2: 1663645; Supplier 3: Newark; Supplier Part Number 3: 56M2175; RoHS: Pb-Free; Type: PGA; Mounting Technology: Surface Mount; ComponentLink1Description: Manufacturer URL; ComponentLink1URL: http://www.linear.com/; ComponentLink2Description: Datasheet; ComponentLink2URL: http://cds.linear.com/docs/en/datasheet/1564fa.pdf; ComponentLink3Description: Package Specification; ComponentLink3URL: http://cds.linear.com/docs/en/packaging/SSOP_16_05-08-1640.pdf
footprint LT-G-16_N (SOP, 16-Leads, Body 6.2x5.3mm, Pitch 0.65mm, IPC Medium Density)
footprint LT-G-16_L (SOP, 16-Leads, Body 6.2x5.3mm, Pitch 0.65mm, IPC High Density)
footprint LT-G-16_M (SOP, 16-Leads, Body 6.2x5.3mm, Pitch 0.65mm, IPC Low Density)
pins: 1 OUT (out) "Analog Output. In normal filtering, this is the output of an internal operational amplifier and is capable of swinging essentially to any voltage between the power supply rails (that is, between V+ and V-). This output is (See Datasheet)", 2 V- (power) "Power Supply Pins. The V+ and V- pins should be bypassed with 0.1uF capacitors to an adequate analog ground plane using the shortest possible wiring. Electrically clean supplies and a low impedance ground are important for (See Datasheet)", 3 ~{EN} (in) "CMOS-Level Digital Chip Enable Input. Logic 1 or open circuiting this pin causes a shutdown mode with reduced supply current. The active circuitry in the LTC1564 shuts off and its output assumes a high impedance state. If F (See Datasheet)", 4 ~{CS}/HOLD (in) "CMOS-Level Digital Enable Input for the Latch Holding F and G Bits. Logic 0 makes the latch transparent so that the F and G inputs directly control the filter’s cutoff frequency and gain. Logic 1 holds the last values of (See Datasheet)", 5 F3 (in) "CMOS-Level Digital Frequency Control ("F Code") Inputs. F3 is the most significant bit (MSB). These pins program the LTC1564’s cutoff frequency fC through the internal latch, whichpasses the bits directly when the CS/HOLD (See Datasheet)", 6 F2 (in) "CMOS-Level Digital Frequency Control ("F Code") Inputs. F3 is the most significant bit (MSB). These pins program the LTC1564’s cutoff frequency fC through the internal latch, whichpasses the bits directly when the CS/HOLD (See Datasheet)", 7 F1 (in) "CMOS-Level Digital Frequency Control ("F Code") Inputs. F3 is the most significant bit (MSB). These pins program the LTC1564’s cutoff frequency fC through the internal latch, whichpasses the bits directly when the CS/HOLD (See Datasheet)", 8 F0 (in) "CMOS-Level Digital Frequency Control ("F Code") Inputs. F3 is the most significant bit (MSB). These pins program the LTC1564’s cutoff frequency fC through the internal latch, whichpasses the bits directly when the CS/HOLD (See Datasheet)", 9 G0 (in) "CMOS-Level Digital Gain Control ("G Code") Inputs. G3 is the most significant bit (MSB). These pins program the LTC1564’s passband gain through the internal latch, which passes the bits directly when the CS/HOLD input is at (See Datasheet)", 10 G1 (in) "CMOS-Level Digital Gain Control ("G Code") Inputs. G3 is the most significant bit (MSB). These pins program the LTC1564’s passband gain through the internal latch, which passes the bits directly when the CS/HOLD input is at (See Datasheet)", 11 G2 (in) "CMOS-Level Digital Gain Control ("G Code") Inputs. G3 is the most significant bit (MSB). These pins program the LTC1564’s passband gain through the internal latch, which passes the bits directly when the CS/HOLD input is at (See Datasheet)", 12 G3 (in) "CMOS-Level Digital Gain Control ("G Code") Inputs. G3 is the most significant bit (MSB). These pins program the LTC1564’s passband gain through the internal latch, which passes the bits directly when the CS/HOLD input is at (See Datasheet)", 13 ~{RST} (in) "CMOS-Level Asynchronous Reset Input. Logic 0 on this pin immediately resets the internal F and G latch to all zeros, regardless of the state of the CS/HOLD pin or the F or G input pins. This causes the LTC1564 to enter a (See Datasheet)", 14 V+ (power) "Power Supply Pins. The V+ and V- pins should be bypassed with 0.1uF capacitors to an adequate analog ground plane using the shortest possible wiring. Electrically clean supplies and a low impedance ground are important for (See Datasheet)", 15 AGND (power) "Analog Ground. The AGND pin is at the midpoint of an internal resistive voltage divider, developing a potential halfway between the V+ and V- pins, with an equivalent series resistance to the pin of nominally 7k. (In the (See Datasheet)", 16 IN (in) "Analog Input. The filter in the LTC1564 senses the voltage difference between the IN and AGND pins. In normal filtering (EN = 0, RST = 1, F code other than 0000), the IN pin connects within the LTC1564 to a digitally (See Datasheet)"

## LTC1564CG#TR
designator U?
Single Channel, Digitally Controlled Antialiasing Filter and 4-Bit PGA, 0.15 MHz Typical GBW, 2.7 to 10.5 V, 16-Pin SOP (G16), Commercial, Reel; Linear Technology Part Number: LTC1564; Manufacturer: Linear Technology; PartNumber: LTC1564CG#TR; Channels (#): 1; GBW (MHz) Typical: 0.15; Is (mA) Typical: 15; Vos (mV) Typical: 3; Vs Max (V): 10.5; Vs Min (V): 2.7; DatasheetVersion: Rev. A; PackageReference: LT-G-16; PackageDescription: 16-Lead Plastic SSOP, Body 6.2 x 5.3 mm, Pitch 0.65 mm; Supplier 1: Digi-Key; Supplier Part Number 1: LTC1564CGTR-ND; Packing: Reel; Type: PGA; Mounting Technology: Surface Mount; ComponentLink1Description: Manufacturer URL; ComponentLink1URL: http://www.linear.com/; ComponentLink2Description: Datasheet; ComponentLink2URL: http://cds.linear.com/docs/en/datasheet/1564fa.pdf; ComponentLink3Description: Package Specification; ComponentLink3URL: http://cds.linear.com/docs/en/packaging/SSOP_16_05-08-1640.pdf
footprint LT-G-16_N (SOP, 16-Leads, Body 6.2x5.3mm, Pitch 0.65mm, IPC Medium Density)
footprint LT-G-16_L (SOP, 16-Leads, Body 6.2x5.3mm, Pitch 0.65mm, IPC High Density)
footprint LT-G-16_M (SOP, 16-Leads, Body 6.2x5.3mm, Pitch 0.65mm, IPC Low Density)
pins: 1 OUT (out) "Analog Output. In normal filtering, this is the output of an internal operational amplifier and is capable of swinging essentially to any voltage between the power supply rails (that is, between V+ and V-). This output is (See Datasheet)", 2 V- (power) "Power Supply Pins. The V+ and V- pins should be bypassed with 0.1uF capacitors to an adequate analog ground plane using the shortest possible wiring. Electrically clean supplies and a low impedance ground are important for (See Datasheet)", 3 ~{EN} (in) "CMOS-Level Digital Chip Enable Input. Logic 1 or open circuiting this pin causes a shutdown mode with reduced supply current. The active circuitry in the LTC1564 shuts off and its output assumes a high impedance state. If F (See Datasheet)", 4 ~{CS}/HOLD (in) "CMOS-Level Digital Enable Input for the Latch Holding F and G Bits. Logic 0 makes the latch transparent so that the F and G inputs directly control the filter’s cutoff frequency and gain. Logic 1 holds the last values of (See Datasheet)", 5 F3 (in) "CMOS-Level Digital Frequency Control ("F Code") Inputs. F3 is the most significant bit (MSB). These pins program the LTC1564’s cutoff frequency fC through the internal latch, whichpasses the bits directly when the CS/HOLD (See Datasheet)", 6 F2 (in) "CMOS-Level Digital Frequency Control ("F Code") Inputs. F3 is the most significant bit (MSB). These pins program the LTC1564’s cutoff frequency fC through the internal latch, whichpasses the bits directly when the CS/HOLD (See Datasheet)", 7 F1 (in) "CMOS-Level Digital Frequency Control ("F Code") Inputs. F3 is the most significant bit (MSB). These pins program the LTC1564’s cutoff frequency fC through the internal latch, whichpasses the bits directly when the CS/HOLD (See Datasheet)", 8 F0 (in) "CMOS-Level Digital Frequency Control ("F Code") Inputs. F3 is the most significant bit (MSB). These pins program the LTC1564’s cutoff frequency fC through the internal latch, whichpasses the bits directly when the CS/HOLD (See Datasheet)", 9 G0 (in) "CMOS-Level Digital Gain Control ("G Code") Inputs. G3 is the most significant bit (MSB). These pins program the LTC1564’s passband gain through the internal latch, which passes the bits directly when the CS/HOLD input is at (See Datasheet)", 10 G1 (in) "CMOS-Level Digital Gain Control ("G Code") Inputs. G3 is the most significant bit (MSB). These pins program the LTC1564’s passband gain through the internal latch, which passes the bits directly when the CS/HOLD input is at (See Datasheet)", 11 G2 (in) "CMOS-Level Digital Gain Control ("G Code") Inputs. G3 is the most significant bit (MSB). These pins program the LTC1564’s passband gain through the internal latch, which passes the bits directly when the CS/HOLD input is at (See Datasheet)", 12 G3 (in) "CMOS-Level Digital Gain Control ("G Code") Inputs. G3 is the most significant bit (MSB). These pins program the LTC1564’s passband gain through the internal latch, which passes the bits directly when the CS/HOLD input is at (See Datasheet)", 13 ~{RST} (in) "CMOS-Level Asynchronous Reset Input. Logic 0 on this pin immediately resets the internal F and G latch to all zeros, regardless of the state of the CS/HOLD pin or the F or G input pins. This causes the LTC1564 to enter a (See Datasheet)", 14 V+ (power) "Power Supply Pins. The V+ and V- pins should be bypassed with 0.1uF capacitors to an adequate analog ground plane using the shortest possible wiring. Electrically clean supplies and a low impedance ground are important for (See Datasheet)", 15 AGND (power) "Analog Ground. The AGND pin is at the midpoint of an internal resistive voltage divider, developing a potential halfway between the V+ and V- pins, with an equivalent series resistance to the pin of nominally 7k. (In the (See Datasheet)", 16 IN (in) "Analog Input. The filter in the LTC1564 senses the voltage difference between the IN and AGND pins. In normal filtering (EN = 0, RST = 1, F code other than 0000), the IN pin connects within the LTC1564 to a digitally (See Datasheet)"